# Altium schematic symbol library Schlib2.SchLib: 46 symbols
Pins are listed as number, name and electrical type; pins without a type are passive.

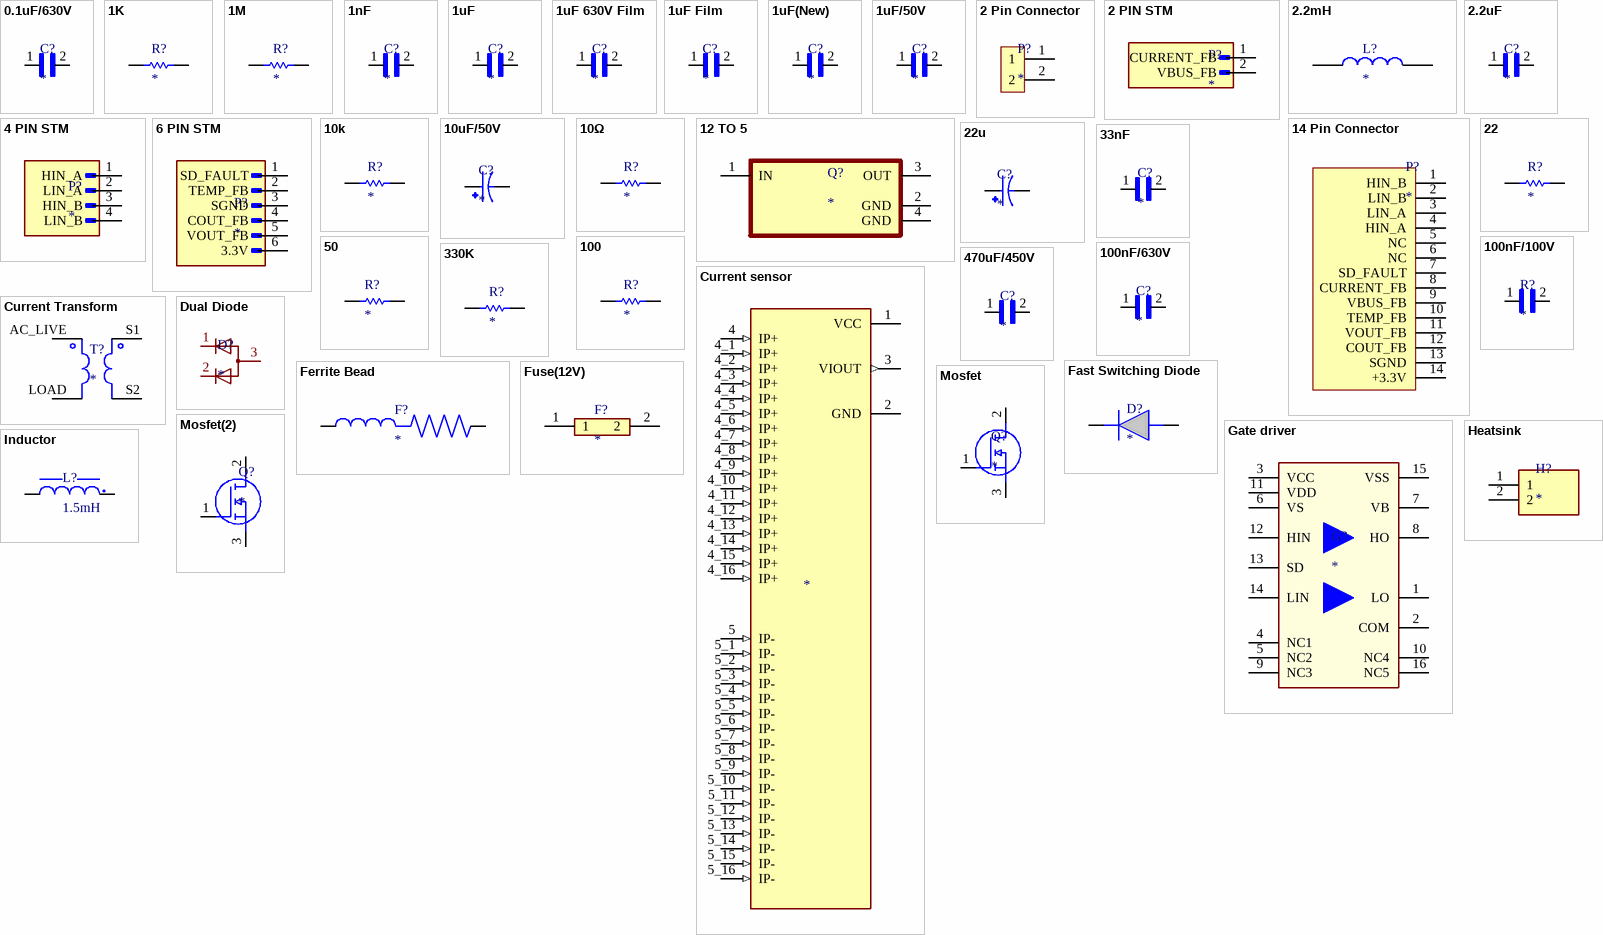
[diagram p0: symbols 0.1uF/630V to Mosfet(2)]

## 0.1uF/630V
designator C?
ECW-FE2J104K
footprint 0.1uF/630V
pins: 1, 2

## 1K
designator R?
MF0207FRE52-1K
footprint 1K
pins: 1, 2

## 1M
designator R?
PTF651M0000BYEA
footprint 1M
pins: 1, 2

## 1nF
designator C?
C315C102KAG5TA
footprint 1nF
pins: 1, 2

## 1uF
designator C?
C1206C105K1RACTU
footprint 1uF (C1206C105K1RACTU)
pins: 1, 2

## 1uF 630V Film
designator C?
ECW-FE2J105Q5
footprint 1UF/630V (ECW-FE2J105Q5)
pins: 1, 2

## 1uF Film
designator C?
ECW-FE2J105QD
footprint 1.0uF/630V (ECW-FE2J105QD)
pins: 1, 2

## 1uF(New)
designator C?
CL21B105MBFNNNE
footprint 1uF(New)
pins: 1, 2

## 1uF/50V
designator C?
GRM21BR71H105KA12L
footprint 1uF/50V
pins: 1, 2

## 2 Pin Connector
designator P?
KF301-2P
footprint 2 Pin Connector (KF301-2P)
pins: 1, 2

## 2 PIN STM
designator P?
M20-9990246
footprint 2 PIN STM
pins: 1 CURRENT_FB, 2 VBUS_FB

## 2.2mH
designator L?
RLB0914-222KL
footprint 2.2mH
pins: 1, 2

## 2.2uF
designator C?
ECWFE2W225KA
footprint 2.2uF
pins: 1, 2

## 4 PIN STM
designator P?
M20-9990446
footprint 4 PIN STM
pins: 1 HIN_A, 2 LIN_A, 3 HIN_B, 4 LIN_B

## 6 PIN STM
designator P?
M20-9990646
footprint 6 PIN STM
pins: 1 SD_FAULT, 2 TEMP_FB, 3 SGND, 4 COUT_FB, 5 VOUT_FB, 6 3.3V

## 10k
designator R?
RC1206FR-0710KL
footprint 10K (RC1206FR-0710KL)
pins: 1, 2

## 10uF/50V
designator C?
ECA-1HM100B
footprint 10uF/50V
pins: N, P

## 10Ω
designator R?
RC1206FR-0710RL
footprint 10 (RC1206FR-0710RL)
pins: 1, 2

## 12 TO 5
designator Q?
LM7805S
footprint 12 TO 5
pins: 1 IN, 2 GND (power), 3 OUT, 4 GND (power)

## 14 Pin Connector
designator P?
TSW-114-07-G-S
footprint 14  Pin Connector
pins: 1 HIN_B, 2 LIN_B, 3 LIN_A, 4 HIN_A, 5 NC, 6 NC, 7 SD_FAULT, 8 CURRENT_FB, 9 VBUS_FB, 10 TEMP_FB, 11 VOUT_FB, 12 COUT_FB, 13 SGND, 14 +3.3V

## 22
designator R?
CFR-25JR-52-22R
footprint 22
pins: 1, 2

## 22u
designator C?
EEU-FR1H220
footprint 22uF
pins: N, P

## 33nF
designator C?
ECW-FD2J333JB
footprint 33nF
pins: 1, 2

## 50
designator R?
MF0207FTE52-49R9
footprint 50
pins: 1, 2

## 100
designator R?
CFR-25JB-52-100R
footprint 100
pins: 1, 2

## 100nF/100V
designator R?
C1210C104K1RACAUTO
footprint 100nF/100V (C1210C104K1RACAUTO)
pins: 1, 2

## 100nF/630V
designator C?
ECW-FE2J104JA
footprint 0.1uF/630V
pins: 1, 2

## 330K
designator R?
RC1206FR-07330KL
footprint 330K (RC1206FR-07330KL)
pins: 1, 2

## 470uF/450V
designator C?
ELG477M450AT6AA
footprint 470 µF/450 V (ELG477M450AT6AA)
pins: 1, 2

## Current sensor
designator ?
ACS758LCB-050B-PFF-T
footprint Current Sensor
pins: 1 VCC (power), 2 GND (power), 3 VIOUT (out), 4 IP+ (in), 4_1 IP+ (in), 4_2 IP+ (in), 4_3 IP+ (in), 4_4 IP+ (in), 4_5 IP+ (in), 4_6 IP+ (in), 4_7 IP+ (in), 4_8 IP+ (in), 4_9 IP+ (in), 4_10 IP+ (in), 4_11 IP+ (in), 4_12 IP+ (in), 4_13 IP+ (in), 4_14 IP+ (in), 4_15 IP+ (in), 4_16 IP+ (in), 5 IP- (in), 5_1 IP- (in), 5_2 IP- (in), 5_3 IP- (in), 5_4 IP- (in), 5_5 IP- (in), 5_6 IP- (in), 5_7 IP- (in), 5_8 IP- (in), 5_9 IP- (in), 5_10 IP- (in), 5_11 IP- (in), 5_12 IP- (in), 5_13 IP- (in), 5_14 IP- (in), 5_15 IP- (in), 5_16 IP- (in)

## Current Transform
designator T?
ZMCT103C
footprint Current Transformer
pins: AC_LIVE 2A, LOAD 1A, S1 8, S2 5

## Dual Diode
designator D?
BAT54C
footprint Dual Diode
pins: 1 C, 2 C, 3 A

## Fast Switching Diode
designator D?
1N4148W-7-F
footprint Fast Switching Diode
pins: 1 K, 2 A

## Ferrite Bead
designator F?
BLM21PG221SN1D
footprint Ferrite Bead
pins: 1, 2

## Fuse(12V)
designator F?
0451001.MRL
footprint Fuse(12V) (0451001.MRL)
pins: 1, 2

## Gate driver
designator G?
IR2110
footprint Gate Driver
pins: 1 LO, 2 COM (power) "Low side return", 3 VCC (power) "Low side supply", 4 NC1 "No Connection", 5 NC2 "No Connection", 6 VS (power) "High side floating supply return", 7 VB (power) "High side floating supply", 8 HO, 9 NC3 "No Connection", 10 NC4 "No Connection", 11 VDD (power) "Logic Supply", 12 HIN, 13 SD, 14 LIN, 15 VSS (power) "Logic ground", 16 NC5 "No Connection"

## Heatsink
designator H?
694-100
footprint Heatsink (694-50)
pins: 1, 2

## Inductor
designator L?, comment 1.5mH
1140-681K-RC
footprint Inductor
pins: 1, 2

## Mosfet
designator Q?
STW69N65M5
footprint Mosfet
pins: 1 G, 2 D, 3 S

## Mosfet(2)
designator Q?
STW69N65M5
pins: 1 G, 2 D, 3 S

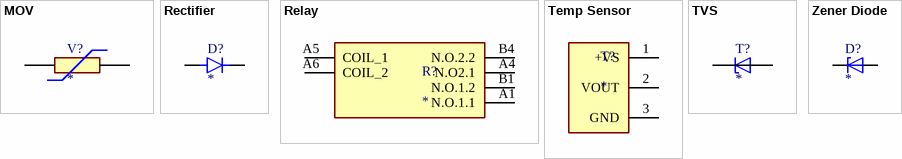
[diagram p1: symbols MOV to Zener Diode]

## MOV
designator V?
B72220S0421K101
footprint MOV (B72220S0421K101)
pins: 1, 2

## Rectifier
designator D?
MUR160G
footprint Rectifier
pins: 1, 2

## Relay
designator R?
HE1AN-P-DC12V
pins: A1 N.O.1.1, A4 N.O2.1, A5 COIL_1, A6 COIL_2, B1 N.O.1.2, B4 N.O.2.2

## Temp Sensor
designator T?
LM35DZ
footprint Temp Sensor
pins: 1 +VS (power), 2 VOUT, 3 GND (power)

## TVS
designator T?
SMAJ15A
footprint TVS
pins: A, C

## Zener Diode
designator D?
BZT52C18
footprint Zener Diode
pins: 1 K, 2 A